# Altium footprint library IPC-SM-782 Section 14.1.1 PBGA 1.5mm.PcbLib: 50 footprints (part 5 of 7)
Each footprint in its own frame and in the unit in brackets; x right, y up, seen from the top. Pads: shape width x height; smd on the part's side, far side on the other; paste and mask are expansions set on the pad; w line width, h text height; cw(c..) or ccw(c..) is an arc to the next point about the centre after c.
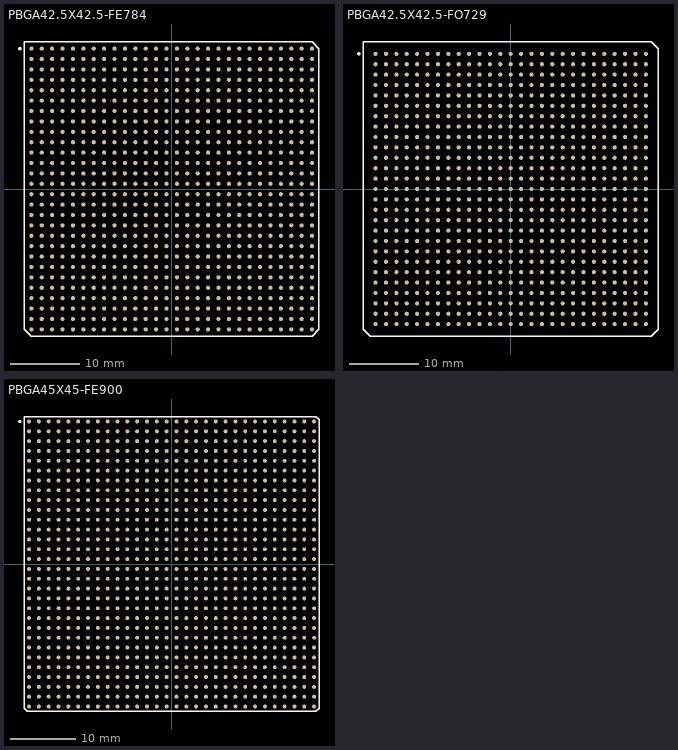
[diagram p4: the footprints below, top view; thin cyan lines are the x and y axes]

## PBGA42.5X42.5-FE784 [mm] "BGA; 784 Balls; Body 42.5 x 42.5 mm; Pitch 1.5 mm"
height 3.5
pads (784):
  round 0.6 smd: A1(-20.25,20.25) A2(-18.75,20.25) A3(-17.25,20.25) A4(-15.75,20.25) A5(-14.25,20.25) A6(-12.75,20.25) A7(-11.25,20.25) A8(-9.75,20.25) A9(-8.25,20.25) A10(-6.75,20.25) A11(-5.25,20.25) A12(-3.75,20.25) A13(-2.25,20.25) A14(-0.75,20.25) A15(0.75,20.25) A16(2.25,20.25) A17(3.75,20.25) A18(5.25,20.25) A19(6.75,20.25) A20(8.25,20.25) A21(9.75,20.25) A22(11.25,20.25) A23(12.75,20.25) A24(14.25,20.25) A25(15.75,20.25) A26(17.25,20.25) A27(18.75,20.25) A28(20.25,20.25) AA1(-20.25,-9.75) AA2(-18.75,-9.75) AA3(-17.25,-9.75) AA4(-15.75,-9.75) AA5(-14.25,-9.75) AA6(-12.75,-9.75) AA7(-11.25,-9.75) AA8(-9.75,-9.75) AA9(-8.25,-9.75) AA10(-6.75,-9.75) AA11(-5.25,-9.75) AA12(-3.75,-9.75) AA13(-2.25,-9.75) AA14(-0.75,-9.75) AA15(0.75,-9.75) AA16(2.25,-9.75) AA17(3.75,-9.75) AA18(5.25,-9.75) AA19(6.75,-9.75) AA20(8.25,-9.75) AA21(9.75,-9.75) AA22(11.25,-9.75) AA23(12.75,-9.75) AA24(14.25,-9.75) AA25(15.75,-9.75) AA26(17.25,-9.75) AA27(18.75,-9.75) AA28(20.25,-9.75) AB1(-20.25,-11.25) AB2(-18.75,-11.25) AB3(-17.25,-11.25) AB4(-15.75,-11.25) AB5(-14.25,-11.25) AB6(-12.75,-11.25) AB7(-11.25,-11.25) AB8(-9.75,-11.25) AB9(-8.25,-11.25) AB10(-6.75,-11.25) AB11(-5.25,-11.25) AB12(-3.75,-11.25) AB13(-2.25,-11.25) AB14(-0.75,-11.25) AB15(0.75,-11.25) AB16(2.25,-11.25) AB17(3.75,-11.25) AB18(5.25,-11.25) AB19(6.75,-11.25) AB20(8.25,-11.25) AB21(9.75,-11.25) AB22(11.25,-11.25) AB23(12.75,-11.25) AB24(14.25,-11.25) AB25(15.75,-11.25) AB26(17.25,-11.25) AB27(18.75,-11.25) AB28(20.25,-11.25) AC1(-20.25,-12.75) AC2(-18.75,-12.75) AC3(-17.25,-12.75) AC4(-15.75,-12.75) AC5(-14.25,-12.75) AC6(-12.75,-12.75) AC7(-11.25,-12.75) AC8(-9.75,-12.75) AC9(-8.25,-12.75) AC10(-6.75,-12.75) AC11(-5.25,-12.75) AC12(-3.75,-12.75) AC13(-2.25,-12.75) AC14(-0.75,-12.75) AC15(0.75,-12.75) AC16(2.25,-12.75) AC17(3.75,-12.75) AC18(5.25,-12.75) AC19(6.75,-12.75) AC20(8.25,-12.75) AC21(9.75,-12.75) AC22(11.25,-12.75) AC23(12.75,-12.75) AC24(14.25,-12.75) AC25(15.75,-12.75) AC26(17.25,-12.75) AC27(18.75,-12.75) AC28(20.25,-12.75) AD1(-20.25,-14.25) AD2(-18.75,-14.25) AD3(-17.25,-14.25) AD4(-15.75,-14.25) AD5(-14.25,-14.25) AD6(-12.75,-14.25) AD7(-11.25,-14.25) AD8(-9.75,-14.25) AD9(-8.25,-14.25) AD10(-6.75,-14.25) AD11(-5.25,-14.25) AD12(-3.75,-14.25) AD13(-2.25,-14.25) AD14(-0.75,-14.25) AD15(0.75,-14.25) AD16(2.25,-14.25) AD17(3.75,-14.25) AD18(5.25,-14.25) AD19(6.75,-14.25) AD20(8.25,-14.25) AD21(9.75,-14.25) AD22(11.25,-14.25) AD23(12.75,-14.25) AD24(14.25,-14.25) AD25(15.75,-14.25) AD26(17.25,-14.25) AD27(18.75,-14.25) AD28(20.25,-14.25) AE1(-20.25,-15.75) AE2(-18.75,-15.75) AE3(-17.25,-15.75) AE4(-15.75,-15.75) AE5(-14.25,-15.75) AE6(-12.75,-15.75) AE7(-11.25,-15.75) AE8(-9.75,-15.75) AE9(-8.25,-15.75) AE10(-6.75,-15.75) AE11(-5.25,-15.75) AE12(-3.75,-15.75) AE13(-2.25,-15.75) AE14(-0.75,-15.75) AE15(0.75,-15.75) AE16(2.25,-15.75) AE17(3.75,-15.75) AE18(5.25,-15.75) AE19(6.75,-15.75) AE20(8.25,-15.75) AE21(9.75,-15.75) AE22(11.25,-15.75) AE23(12.75,-15.75) AE24(14.25,-15.75) AE25(15.75,-15.75) AE26(17.25,-15.75) AE27(18.75,-15.75) AE28(20.25,-15.75) AF1(-20.25,-17.25) AF2(-18.75,-17.25) AF3(-17.25,-17.25) AF4(-15.75,-17.25) AF5(-14.25,-17.25) AF6(-12.75,-17.25) AF7(-11.25,-17.25) AF8(-9.75,-17.25) AF9(-8.25,-17.25) AF10(-6.75,-17.25) AF11(-5.25,-17.25) AF12(-3.75,-17.25) AF13(-2.25,-17.25) AF14(-0.75,-17.25) AF15(0.75,-17.25) AF16(2.25,-17.25) AF17(3.75,-17.25) AF18(5.25,-17.25) AF19(6.75,-17.25) AF20(8.25,-17.25) AF21(9.75,-17.25) AF22(11.25,-17.25) AF23(12.75,-17.25) AF24(14.25,-17.25) AF25(15.75,-17.25) AF26(17.25,-17.25) AF27(18.75,-17.25) AF28(20.25,-17.25) AG1(-20.25,-18.75) AG2(-18.75,-18.75) AG3(-17.25,-18.75) AG4(-15.75,-18.75) AG5(-14.25,-18.75) AG6(-12.75,-18.75) AG7(-11.25,-18.75) AG8(-9.75,-18.75) AG9(-8.25,-18.75) AG10(-6.75,-18.75) AG11(-5.25,-18.75) AG12(-3.75,-18.75) AG13(-2.25,-18.75) AG14(-0.75,-18.75) AG15(0.75,-18.75) AG16(2.25,-18.75) AG17(3.75,-18.75) AG18(5.25,-18.75) AG19(6.75,-18.75) AG20(8.25,-18.75) AG21(9.75,-18.75) AG22(11.25,-18.75) AG23(12.75,-18.75) AG24(14.25,-18.75) AG25(15.75,-18.75) AG26(17.25,-18.75) AG27(18.75,-18.75) AG28(20.25,-18.75) AH1(-20.25,-20.25) AH2(-18.75,-20.25) AH3(-17.25,-20.25) AH4(-15.75,-20.25) AH5(-14.25,-20.25) AH6(-12.75,-20.25) AH7(-11.25,-20.25) AH8(-9.75,-20.25) AH9(-8.25,-20.25) AH10(-6.75,-20.25) AH11(-5.25,-20.25) AH12(-3.75,-20.25) AH13(-2.25,-20.25) AH14(-0.75,-20.25) AH15(0.75,-20.25) AH16(2.25,-20.25) AH17(3.75,-20.25) AH18(5.25,-20.25) AH19(6.75,-20.25) AH20(8.25,-20.25) AH21(9.75,-20.25) AH22(11.25,-20.25) AH23(12.75,-20.25) AH24(14.25,-20.25) AH25(15.75,-20.25) AH26(17.25,-20.25) AH27(18.75,-20.25) AH28(20.25,-20.25) B1(-20.25,18.75) B2(-18.75,18.75) B3(-17.25,18.75) B4(-15.75,18.75) B5(-14.25,18.75) B6(-12.75,18.75) B7(-11.25,18.75) B8(-9.75,18.75) B9(-8.25,18.75) B10(-6.75,18.75) B11(-5.25,18.75) B12(-3.75,18.75) B13(-2.25,18.75) B14(-0.75,18.75) B15(0.75,18.75) B16(2.25,18.75) B17(3.75,18.75) B18(5.25,18.75) B19(6.75,18.75) B20(8.25,18.75) B21(9.75,18.75) B22(11.25,18.75) B23(12.75,18.75) B24(14.25,18.75) B25(15.75,18.75) B26(17.25,18.75) B27(18.75,18.75) B28(20.25,18.75) C1(-20.25,17.25) C2(-18.75,17.25) C3(-17.25,17.25) C4(-15.75,17.25) C5(-14.25,17.25) C6(-12.75,17.25) C7(-11.25,17.25) C8(-9.75,17.25) C9(-8.25,17.25) C10(-6.75,17.25) C11(-5.25,17.25) C12(-3.75,17.25) C13(-2.25,17.25) C14(-0.75,17.25) C15(0.75,17.25) C16(2.25,17.25) C17(3.75,17.25) C18(5.25,17.25) C19(6.75,17.25) C20(8.25,17.25) C21(9.75,17.25) C22(11.25,17.25) C23(12.75,17.25) C24(14.25,17.25) C25(15.75,17.25) C26(17.25,17.25) C27(18.75,17.25) C28(20.25,17.25) D1(-20.25,15.75) D2(-18.75,15.75) D3(-17.25,15.75) D4(-15.75,15.75) D5(-14.25,15.75) D6(-12.75,15.75) D7(-11.25,15.75) D8(-9.75,15.75) D9(-8.25,15.75) D10(-6.75,15.75) D11(-5.25,15.75) D12(-3.75,15.75) D13(-2.25,15.75) D14(-0.75,15.75) D15(0.75,15.75) D16(2.25,15.75) D17(3.75,15.75) D18(5.25,15.75) D19(6.75,15.75) D20(8.25,15.75) D21(9.75,15.75) D22(11.25,15.75) D23(12.75,15.75) D24(14.25,15.75) D25(15.75,15.75) D26(17.25,15.75) D27(18.75,15.75) D28(20.25,15.75) E1(-20.25,14.25) E2(-18.75,14.25) E3(-17.25,14.25) E4(-15.75,14.25) E5(-14.25,14.25) E6(-12.75,14.25) E7(-11.25,14.25) E8(-9.75,14.25) E9(-8.25,14.25) E10(-6.75,14.25) E11(-5.25,14.25) E12(-3.75,14.25) E13(-2.25,14.25) E14(-0.75,14.25) E15(0.75,14.25) E16(2.25,14.25) E17(3.75,14.25) E18(5.25,14.25) E19(6.75,14.25) E20(8.25,14.25) E21(9.75,14.25) E22(11.25,14.25) E23(12.75,14.25) E24(14.25,14.25) E25(15.75,14.25) E26(17.25,14.25) E27(18.75,14.25) E28(20.25,14.25) F1(-20.25,12.75) F2(-18.75,12.75) F3(-17.25,12.75) F4(-15.75,12.75) F5(-14.25,12.75) F6(-12.75,12.75) F7(-11.25,12.75) F8(-9.75,12.75) F9(-8.25,12.75) F10(-6.75,12.75) F11(-5.25,12.75) F12(-3.75,12.75) F13(-2.25,12.75) F14(-0.75,12.75) F15(0.75,12.75) F16(2.25,12.75) F17(3.75,12.75) F18(5.25,12.75) F19(6.75,12.75) F20(8.25,12.75) F21(9.75,12.75) F22(11.25,12.75) F23(12.75,12.75) F24(14.25,12.75) F25(15.75,12.75) F26(17.25,12.75) F27(18.75,12.75) F28(20.25,12.75) G1(-20.25,11.25) G2(-18.75,11.25) G3(-17.25,11.25) G4(-15.75,11.25) G5(-14.25,11.25) G6(-12.75,11.25) G7(-11.25,11.25) G8(-9.75,11.25) G9(-8.25,11.25) G10(-6.75,11.25) G11(-5.25,11.25) G12(-3.75,11.25) G13(-2.25,11.25) G14(-0.75,11.25) G15(0.75,11.25) G16(2.25,11.25) G17(3.75,11.25) G18(5.25,11.25) G19(6.75,11.25) G20(8.25,11.25) G21(9.75,11.25) G22(11.25,11.25) G23(12.75,11.25) G24(14.25,11.25) G25(15.75,11.25) G26(17.25,11.25) G27(18.75,11.25) G28(20.25,11.25) H1(-20.25,9.75) H2(-18.75,9.75) H3(-17.25,9.75) H4(-15.75,9.75) H5(-14.25,9.75) H6(-12.75,9.75) H7(-11.25,9.75) H8(-9.75,9.75) H9(-8.25,9.75) H10(-6.75,9.75) H11(-5.25,9.75) H12(-3.75,9.75) H13(-2.25,9.75) H14(-0.75,9.75) H15(0.75,9.75) H16(2.25,9.75) H17(3.75,9.75) H18(5.25,9.75) H19(6.75,9.75) H20(8.25,9.75) H21(9.75,9.75) H22(11.25,9.75) H23(12.75,9.75) H24(14.25,9.75) H25(15.75,9.75) H26(17.25,9.75) H27(18.75,9.75) H28(20.25,9.75) J1(-20.25,8.25) J2(-18.75,8.25) J3(-17.25,8.25) J4(-15.75,8.25) J5(-14.25,8.25) J6(-12.75,8.25) J7(-11.25,8.25) J8(-9.75,8.25) J9(-8.25,8.25) J10(-6.75,8.25) J11(-5.25,8.25) J12(-3.75,8.25) J13(-2.25,8.25) J14(-0.75,8.25) J15(0.75,8.25) J16(2.25,8.25) J17(3.75,8.25) J18(5.25,8.25) J19(6.75,8.25) J20(8.25,8.25) J21(9.75,8.25) J22(11.25,8.25) J23(12.75,8.25) J24(14.25,8.25) J25(15.75,8.25) J26(17.25,8.25) J27(18.75,8.25) J28(20.25,8.25) K1(-20.25,6.75) K2(-18.75,6.75) K3(-17.25,6.75) K4(-15.75,6.75) K5(-14.25,6.75) K6(-12.75,6.75) K7(-11.25,6.75) K8(-9.75,6.75) K9(-8.25,6.75) K10(-6.75,6.75) K11(-5.25,6.75) K12(-3.75,6.75) K13(-2.25,6.75) K14(-0.75,6.75) K15(0.75,6.75) K16(2.25,6.75) K17(3.75,6.75) K18(5.25,6.75) K19(6.75,6.75) K20(8.25,6.75) K21(9.75,6.75) K22(11.25,6.75) K23(12.75,6.75) K24(14.25,6.75) K25(15.75,6.75) K26(17.25,6.75) K27(18.75,6.75) K28(20.25,6.75) L1(-20.25,5.25) L2(-18.75,5.25) L3(-17.25,5.25) L4(-15.75,5.25) L5(-14.25,5.25) L6(-12.75,5.25) L7(-11.25,5.25) L8(-9.75,5.25) L9(-8.25,5.25) L10(-6.75,5.25) L11(-5.25,5.25) L12(-3.75,5.25) L13(-2.25,5.25) L14(-0.75,5.25) L15(0.75,5.25) L16(2.25,5.25) L17(3.75,5.25) L18(5.25,5.25) L19(6.75,5.25) L20(8.25,5.25) L21(9.75,5.25) L22(11.25,5.25) L23(12.75,5.25) L24(14.25,5.25) L25(15.75,5.25) L26(17.25,5.25) L27(18.75,5.25) L28(20.25,5.25) M1(-20.25,3.75) M2(-18.75,3.75) M3(-17.25,3.75) M4(-15.75,3.75) M5(-14.25,3.75) M6(-12.75,3.75) M7(-11.25,3.75) M8(-9.75,3.75) M9(-8.25,3.75) M10(-6.75,3.75) M11(-5.25,3.75) M12(-3.75,3.75) M13(-2.25,3.75) M14(-0.75,3.75) M15(0.75,3.75) M16(2.25,3.75) M17(3.75,3.75) M18(5.25,3.75) M19(6.75,3.75) M20(8.25,3.75) M21(9.75,3.75) M22(11.25,3.75) M23(12.75,3.75) M24(14.25,3.75) M25(15.75,3.75) M26(17.25,3.75) M27(18.75,3.75) M28(20.25,3.75) N1(-20.25,2.25) N2(-18.75,2.25) N3(-17.25,2.25) N4(-15.75,2.25) N5(-14.25,2.25) N6(-12.75,2.25) N7(-11.25,2.25) N8(-9.75,2.25) N9(-8.25,2.25) N10(-6.75,2.25) N11(-5.25,2.25) N12(-3.75,2.25) N13(-2.25,2.25) N14(-0.75,2.25) N15(0.75,2.25) N16(2.25,2.25) N17(3.75,2.25) N18(5.25,2.25) N19(6.75,2.25) N20(8.25,2.25) N21(9.75,2.25) N22(11.25,2.25) N23(12.75,2.25) N24(14.25,2.25) N25(15.75,2.25) N26(17.25,2.25) N27(18.75,2.25) N28(20.25,2.25) P1(-20.25,0.75) P2(-18.75,0.75) P3(-17.25,0.75) P4(-15.75,0.75) P5(-14.25,0.75) P6(-12.75,0.75) P7(-11.25,0.75) P8(-9.75,0.75) P9(-8.25,0.75) P10(-6.75,0.75) P11(-5.25,0.75) P12(-3.75,0.75) P13(-2.25,0.75) P14(-0.75,0.75) P15(0.75,0.75) P16(2.25,0.75) P17(3.75,0.75) P18(5.25,0.75) P19(6.75,0.75) P20(8.25,0.75) P21(9.75,0.75) P22(11.25,0.75) P23(12.75,0.75) P24(14.25,0.75) P25(15.75,0.75) P26(17.25,0.75) P27(18.75,0.75) P28(20.25,0.75) R1(-20.25,-0.75) R2(-18.75,-0.75) R3(-17.25,-0.75) R4(-15.75,-0.75) R5(-14.25,-0.75) R6(-12.75,-0.75) R7(-11.25,-0.75) R8(-9.75,-0.75) R9(-8.25,-0.75) R10(-6.75,-0.75) R11(-5.25,-0.75) R12(-3.75,-0.75) R13(-2.25,-0.75) R14(-0.75,-0.75) R15(0.75,-0.75) R16(2.25,-0.75) R17(3.75,-0.75) R18(5.25,-0.75) R19(6.75,-0.75) R20(8.25,-0.75) R21(9.75,-0.75) R22(11.25,-0.75) R23(12.75,-0.75) R24(14.25,-0.75) R25(15.75,-0.75) R26(17.25,-0.75) R27(18.75,-0.75) R28(20.25,-0.75) T1(-20.25,-2.25) T2(-18.75,-2.25) T3(-17.25,-2.25) T4(-15.75,-2.25) T5(-14.25,-2.25) T6(-12.75,-2.25) T7(-11.25,-2.25) T8(-9.75,-2.25) T9(-8.25,-2.25) T10(-6.75,-2.25) T11(-5.25,-2.25) T12(-3.75,-2.25) T13(-2.25,-2.25) T14(-0.75,-2.25) T15(0.75,-2.25) T16(2.25,-2.25) T17(3.75,-2.25) T18(5.25,-2.25) T19(6.75,-2.25) T20(8.25,-2.25) T21(9.75,-2.25) T22(11.25,-2.25) T23(12.75,-2.25) T24(14.25,-2.25) T25(15.75,-2.25) T26(17.25,-2.25) T27(18.75,-2.25) T28(20.25,-2.25) U1(-20.25,-3.75) U2(-18.75,-3.75) U3(-17.25,-3.75) U4(-15.75,-3.75) U5(-14.25,-3.75) U6(-12.75,-3.75) U7(-11.25,-3.75) U8(-9.75,-3.75) U9(-8.25,-3.75) U10(-6.75,-3.75) U11(-5.25,-3.75) U12(-3.75,-3.75) U13(-2.25,-3.75) U14(-0.75,-3.75) U15(0.75,-3.75) U16(2.25,-3.75) U17(3.75,-3.75) U18(5.25,-3.75) U19(6.75,-3.75) U20(8.25,-3.75) U21(9.75,-3.75) U22(11.25,-3.75) U23(12.75,-3.75) U24(14.25,-3.75) U25(15.75,-3.75) U26(17.25,-3.75) U27(18.75,-3.75) U28(20.25,-3.75) V1(-20.25,-5.25) V2(-18.75,-5.25) V3(-17.25,-5.25) V4(-15.75,-5.25) V5(-14.25,-5.25) V6(-12.75,-5.25) V7(-11.25,-5.25) V8(-9.75,-5.25) V9(-8.25,-5.25) V10(-6.75,-5.25) V11(-5.25,-5.25) V12(-3.75,-5.25) V13(-2.25,-5.25) V14(-0.75,-5.25) V15(0.75,-5.25) V16(2.25,-5.25) V17(3.75,-5.25) V18(5.25,-5.25) V19(6.75,-5.25) V20(8.25,-5.25) V21(9.75,-5.25) V22(11.25,-5.25) V23(12.75,-5.25) V24(14.25,-5.25) V25(15.75,-5.25) V26(17.25,-5.25) V27(18.75,-5.25) V28(20.25,-5.25) W1(-20.25,-6.75) W2(-18.75,-6.75) W3(-17.25,-6.75) W4(-15.75,-6.75) W5(-14.25,-6.75) W6(-12.75,-6.75) W7(-11.25,-6.75) W8(-9.75,-6.75) W9(-8.25,-6.75) W10(-6.75,-6.75) W11(-5.25,-6.75) W12(-3.75,-6.75) W13(-2.25,-6.75) W14(-0.75,-6.75) W15(0.75,-6.75) W16(2.25,-6.75) W17(3.75,-6.75) W18(5.25,-6.75) W19(6.75,-6.75) W20(8.25,-6.75) W21(9.75,-6.75) W22(11.25,-6.75) W23(12.75,-6.75) W24(14.25,-6.75) W25(15.75,-6.75) W26(17.25,-6.75) W27(18.75,-6.75) W28(20.25,-6.75) Y1(-20.25,-8.25) Y2(-18.75,-8.25) Y3(-17.25,-8.25) Y4(-15.75,-8.25) Y5(-14.25,-8.25) Y6(-12.75,-8.25) Y7(-11.25,-8.25) Y8(-9.75,-8.25) Y9(-8.25,-8.25) Y10(-6.75,-8.25) Y11(-5.25,-8.25) Y12(-3.75,-8.25) Y13(-2.25,-8.25) Y14(-0.75,-8.25) Y15(0.75,-8.25) Y16(2.25,-8.25) Y17(3.75,-8.25) Y18(5.25,-8.25) Y19(6.75,-8.25) Y20(8.25,-8.25) Y21(9.75,-8.25) Y22(11.25,-8.25) Y23(12.75,-8.25) Y24(14.25,-8.25) Y25(15.75,-8.25) Y26(17.25,-8.25) Y27(18.75,-8.25) Y28(20.25,-8.25)
Top Overlay:
  circle w0.25: c-21.905,20.25 r0.125
  lines w0.2: -21.25,-20.25 -21.25,21.25 20.25,21.25 21.25,20.25 21.25,-20.25 20.25,-21.25 -20.25,-21.25 -21.25,-20.25

## PBGA42.5X42.5-FO729 [mm] "BGA; 729 Balls; Body 42.5 x 42.5 mm; Pitch 1.5 mm"
height 3.5
pads (729):
  round 0.6 smd: A1(-19.5,19.5) A2(-18,19.5) A3(-16.5,19.5) A4(-15,19.5) A5(-13.5,19.5) A6(-12,19.5) A7(-10.5,19.5) A8(-9,19.5) A9(-7.5,19.5) A10(-6,19.5) A11(-4.5,19.5) A12(-3,19.5) A13(-1.5,19.5) A14(0,19.5) A15(1.5,19.5) A16(3,19.5) A17(4.5,19.5) A18(6,19.5) A19(7.5,19.5) A20(9,19.5) A21(10.5,19.5) A22(12,19.5) A23(13.5,19.5) A24(15,19.5) A25(16.5,19.5) A26(18,19.5) A27(19.5,19.5) AA1(-19.5,-10.5) AA2(-18,-10.5) AA3(-16.5,-10.5) AA4(-15,-10.5) AA5(-13.5,-10.5) AA6(-12,-10.5) AA7(-10.5,-10.5) AA8(-9,-10.5) AA9(-7.5,-10.5) AA10(-6,-10.5) AA11(-4.5,-10.5) AA12(-3,-10.5) AA13(-1.5,-10.5) AA14(0,-10.5) AA15(1.5,-10.5) AA16(3,-10.5) AA17(4.5,-10.5) AA18(6,-10.5) AA19(7.5,-10.5) AA20(9,-10.5) AA21(10.5,-10.5) AA22(12,-10.5) AA23(13.5,-10.5) AA24(15,-10.5) AA25(16.5,-10.5) AA26(18,-10.5) AA27(19.5,-10.5) AB1(-19.5,-12) AB2(-18,-12) AB3(-16.5,-12) AB4(-15,-12) AB5(-13.5,-12) AB6(-12,-12) AB7(-10.5,-12) AB8(-9,-12) AB9(-7.5,-12) AB10(-6,-12) AB11(-4.5,-12) AB12(-3,-12) AB13(-1.5,-12) AB14(0,-12) AB15(1.5,-12) AB16(3,-12) AB17(4.5,-12) AB18(6,-12) AB19(7.5,-12) AB20(9,-12) AB21(10.5,-12) AB22(12,-12) AB23(13.5,-12) AB24(15,-12) AB25(16.5,-12) AB26(18,-12) AB27(19.5,-12) AC1(-19.5,-13.5) AC2(-18,-13.5) AC3(-16.5,-13.5) AC4(-15,-13.5) AC5(-13.5,-13.5) AC6(-12,-13.5) AC7(-10.5,-13.5) AC8(-9,-13.5) AC9(-7.5,-13.5) AC10(-6,-13.5) AC11(-4.5,-13.5) AC12(-3,-13.5) AC13(-1.5,-13.5) AC14(0,-13.5) AC15(1.5,-13.5) AC16(3,-13.5) AC17(4.5,-13.5) AC18(6,-13.5) AC19(7.5,-13.5) AC20(9,-13.5) AC21(10.5,-13.5) AC22(12,-13.5) AC23(13.5,-13.5) AC24(15,-13.5) AC25(16.5,-13.5) AC26(18,-13.5) AC27(19.5,-13.5) AD1(-19.5,-15) AD2(-18,-15) AD3(-16.5,-15) AD4(-15,-15) AD5(-13.5,-15) AD6(-12,-15) AD7(-10.5,-15) AD8(-9,-15) AD9(-7.5,-15) AD10(-6,-15) AD11(-4.5,-15) AD12(-3,-15) AD13(-1.5,-15) AD14(0,-15) AD15(1.5,-15) AD16(3,-15) AD17(4.5,-15) AD18(6,-15) AD19(7.5,-15) AD20(9,-15) AD21(10.5,-15) AD22(12,-15) AD23(13.5,-15) AD24(15,-15) AD25(16.5,-15) AD26(18,-15) AD27(19.5,-15) AE1(-19.5,-16.5) AE2(-18,-16.5) AE3(-16.5,-16.5) AE4(-15,-16.5) AE5(-13.5,-16.5) AE6(-12,-16.5) AE7(-10.5,-16.5) AE8(-9,-16.5) AE9(-7.5,-16.5) AE10(-6,-16.5) AE11(-4.5,-16.5) AE12(-3,-16.5) AE13(-1.5,-16.5) AE14(0,-16.5) AE15(1.5,-16.5) AE16(3,-16.5) AE17(4.5,-16.5) AE18(6,-16.5) AE19(7.5,-16.5) AE20(9,-16.5) AE21(10.5,-16.5) AE22(12,-16.5) AE23(13.5,-16.5) AE24(15,-16.5) AE25(16.5,-16.5) AE26(18,-16.5) AE27(19.5,-16.5) AF1(-19.5,-18) AF2(-18,-18) AF3(-16.5,-18) AF4(-15,-18) AF5(-13.5,-18) AF6(-12,-18) AF7(-10.5,-18) AF8(-9,-18) AF9(-7.5,-18) AF10(-6,-18) AF11(-4.5,-18) AF12(-3,-18) AF13(-1.5,-18) AF14(0,-18) AF15(1.5,-18) AF16(3,-18) AF17(4.5,-18) AF18(6,-18) AF19(7.5,-18) AF20(9,-18) AF21(10.5,-18) AF22(12,-18) AF23(13.5,-18) AF24(15,-18) AF25(16.5,-18) AF26(18,-18) AF27(19.5,-18) AG1(-19.5,-19.5) AG2(-18,-19.5) AG3(-16.5,-19.5) AG4(-15,-19.5) AG5(-13.5,-19.5) AG6(-12,-19.5) AG7(-10.5,-19.5) AG8(-9,-19.5) AG9(-7.5,-19.5) AG10(-6,-19.5) AG11(-4.5,-19.5) AG12(-3,-19.5) AG13(-1.5,-19.5) AG14(0,-19.5) AG15(1.5,-19.5) AG16(3,-19.5) AG17(4.5,-19.5) AG18(6,-19.5) AG19(7.5,-19.5) AG20(9,-19.5) AG21(10.5,-19.5) AG22(12,-19.5) AG23(13.5,-19.5) AG24(15,-19.5) AG25(16.5,-19.5) AG26(18,-19.5) AG27(19.5,-19.5) B1(-19.5,18) B2(-18,18) B3(-16.5,18) B4(-15,18) B5(-13.5,18) B6(-12,18) B7(-10.5,18) B8(-9,18) B9(-7.5,18) B10(-6,18) B11(-4.5,18) B12(-3,18) B13(-1.5,18) B14(0,18) B15(1.5,18) B16(3,18) B17(4.5,18) B18(6,18) B19(7.5,18) B20(9,18) B21(10.5,18) B22(12,18) B23(13.5,18) B24(15,18) B25(16.5,18) B26(18,18) B27(19.5,18) C1(-19.5,16.5) C2(-18,16.5) C3(-16.5,16.5) C4(-15,16.5) C5(-13.5,16.5) C6(-12,16.5) C7(-10.5,16.5) C8(-9,16.5) C9(-7.5,16.5) C10(-6,16.5) C11(-4.5,16.5) C12(-3,16.5) C13(-1.5,16.5) C14(0,16.5) C15(1.5,16.5) C16(3,16.5) C17(4.5,16.5) C18(6,16.5) C19(7.5,16.5) C20(9,16.5) C21(10.5,16.5) C22(12,16.5) C23(13.5,16.5) C24(15,16.5) C25(16.5,16.5) C26(18,16.5) C27(19.5,16.5) D1(-19.5,15) D2(-18,15) D3(-16.5,15) D4(-15,15) D5(-13.5,15) D6(-12,15) D7(-10.5,15) D8(-9,15) D9(-7.5,15) D10(-6,15) D11(-4.5,15) D12(-3,15) D13(-1.5,15) D14(0,15) D15(1.5,15) D16(3,15) D17(4.5,15) D18(6,15) D19(7.5,15) D20(9,15) D21(10.5,15) D22(12,15) D23(13.5,15) D24(15,15) D25(16.5,15) D26(18,15) D27(19.5,15) E1(-19.5,13.5) E2(-18,13.5) E3(-16.5,13.5) E4(-15,13.5) E5(-13.5,13.5) E6(-12,13.5) E7(-10.5,13.5) E8(-9,13.5) E9(-7.5,13.5) E10(-6,13.5) E11(-4.5,13.5) E12(-3,13.5) E13(-1.5,13.5) E14(0,13.5) E15(1.5,13.5) E16(3,13.5) E17(4.5,13.5) E18(6,13.5) E19(7.5,13.5) E20(9,13.5) E21(10.5,13.5) E22(12,13.5) E23(13.5,13.5) E24(15,13.5) E25(16.5,13.5) E26(18,13.5) E27(19.5,13.5) F1(-19.5,12) F2(-18,12) F3(-16.5,12) F4(-15,12) F5(-13.5,12) F6(-12,12) F7(-10.5,12) F8(-9,12) F9(-7.5,12) F10(-6,12) F11(-4.5,12) F12(-3,12) F13(-1.5,12) F14(0,12) F15(1.5,12) F16(3,12) F17(4.5,12) F18(6,12) F19(7.5,12) F20(9,12) F21(10.5,12) F22(12,12) F23(13.5,12) F24(15,12) F25(16.5,12) F26(18,12) F27(19.5,12) G1(-19.5,10.5) G2(-18,10.5) G3(-16.5,10.5) G4(-15,10.5) G5(-13.5,10.5) G6(-12,10.5) G7(-10.5,10.5) G8(-9,10.5) G9(-7.5,10.5) G10(-6,10.5) G11(-4.5,10.5) G12(-3,10.5) G13(-1.5,10.5) G14(0,10.5) G15(1.5,10.5) G16(3,10.5) G17(4.5,10.5) G18(6,10.5) G19(7.5,10.5) G20(9,10.5) G21(10.5,10.5) G22(12,10.5) G23(13.5,10.5) G24(15,10.5) G25(16.5,10.5) G26(18,10.5) G27(19.5,10.5) H1(-19.5,9) H2(-18,9) H3(-16.5,9) H4(-15,9) H5(-13.5,9) H6(-12,9) H7(-10.5,9) H8(-9,9) H9(-7.5,9) H10(-6,9) H11(-4.5,9) H12(-3,9) H13(-1.5,9) H14(0,9) H15(1.5,9) H16(3,9) H17(4.5,9) H18(6,9) H19(7.5,9) H20(9,9) H21(10.5,9) H22(12,9) H23(13.5,9) H24(15,9) H25(16.5,9) H26(18,9) H27(19.5,9) J1(-19.5,7.5) J2(-18,7.5) J3(-16.5,7.5) J4(-15,7.5) J5(-13.5,7.5) J6(-12,7.5) J7(-10.5,7.5) J8(-9,7.5) J9(-7.5,7.5) J10(-6,7.5) J11(-4.5,7.5) J12(-3,7.5) J13(-1.5,7.5) J14(0,7.5) J15(1.5,7.5) J16(3,7.5) J17(4.5,7.5) J18(6,7.5) J19(7.5,7.5) J20(9,7.5) J21(10.5,7.5) J22(12,7.5) J23(13.5,7.5) J24(15,7.5) J25(16.5,7.5) J26(18,7.5) J27(19.5,7.5) K1(-19.5,6) K2(-18,6) K3(-16.5,6) K4(-15,6) K5(-13.5,6) K6(-12,6) K7(-10.5,6) K8(-9,6) K9(-7.5,6) K10(-6,6) K11(-4.5,6) K12(-3,6) K13(-1.5,6) K14(0,6) K15(1.5,6) K16(3,6) K17(4.5,6) K18(6,6) K19(7.5,6) K20(9,6) K21(10.5,6) K22(12,6) K23(13.5,6) K24(15,6) K25(16.5,6) K26(18,6) K27(19.5,6) L1(-19.5,4.5) L2(-18,4.5) L3(-16.5,4.5) L4(-15,4.5) L5(-13.5,4.5) L6(-12,4.5) L7(-10.5,4.5) L8(-9,4.5) L9(-7.5,4.5) L10(-6,4.5) L11(-4.5,4.5) L12(-3,4.5) L13(-1.5,4.5) L14(0,4.5) L15(1.5,4.5) L16(3,4.5) L17(4.5,4.5) L18(6,4.5) L19(7.5,4.5) L20(9,4.5) L21(10.5,4.5) L22(12,4.5) L23(13.5,4.5) L24(15,4.5) L25(16.5,4.5) L26(18,4.5) L27(19.5,4.5) M1(-19.5,3) M2(-18,3) M3(-16.5,3) M4(-15,3) M5(-13.5,3) M6(-12,3) M7(-10.5,3) M8(-9,3) M9(-7.5,3) M10(-6,3) M11(-4.5,3) M12(-3,3) M13(-1.5,3) M14(0,3) M15(1.5,3) M16(3,3) M17(4.5,3) M18(6,3) M19(7.5,3) M20(9,3) M21(10.5,3) M22(12,3) M23(13.5,3) M24(15,3) M25(16.5,3) M26(18,3) M27(19.5,3) N1(-19.5,1.5) N2(-18,1.5) N3(-16.5,1.5) N4(-15,1.5) N5(-13.5,1.5) N6(-12,1.5) N7(-10.5,1.5) N8(-9,1.5) N9(-7.5,1.5) N10(-6,1.5) N11(-4.5,1.5) N12(-3,1.5) N13(-1.5,1.5) N14(0,1.5) N15(1.5,1.5) N16(3,1.5) N17(4.5,1.5) N18(6,1.5) N19(7.5,1.5) N20(9,1.5) N21(10.5,1.5) N22(12,1.5) N23(13.5,1.5) N24(15,1.5) N25(16.5,1.5) N26(18,1.5) N27(19.5,1.5) P1(-19.5,0) P2(-18,0) P3(-16.5,0) P4(-15,0) P5(-13.5,0) P6(-12,0) P7(-10.5,0) P8(-9,0) P9(-7.5,0) P10(-6,0) P11(-4.5,0) P12(-3,0) P13(-1.5,0) P14(0,0) P15(1.5,0) P16(3,0) P17(4.5,0) P18(6,0) P19(7.5,0) P20(9,0) P21(10.5,0) P22(12,0) P23(13.5,0) P24(15,0) P25(16.5,0) P26(18,0) P27(19.5,0) R1(-19.5,-1.5) R2(-18,-1.5) R3(-16.5,-1.5) R4(-15,-1.5) R5(-13.5,-1.5) R6(-12,-1.5) R7(-10.5,-1.5) R8(-9,-1.5) R9(-7.5,-1.5) R10(-6,-1.5) R11(-4.5,-1.5) R12(-3,-1.5) R13(-1.5,-1.5) R14(0,-1.5) R15(1.5,-1.5) R16(3,-1.5) R17(4.5,-1.5) R18(6,-1.5) R19(7.5,-1.5) R20(9,-1.5) R21(10.5,-1.5) R22(12,-1.5) R23(13.5,-1.5) R24(15,-1.5) R25(16.5,-1.5) R26(18,-1.5) R27(19.5,-1.5) T1(-19.5,-3) T2(-18,-3) T3(-16.5,-3) T4(-15,-3) T5(-13.5,-3) T6(-12,-3) T7(-10.5,-3) T8(-9,-3) T9(-7.5,-3) T10(-6,-3) T11(-4.5,-3) T12(-3,-3) T13(-1.5,-3) T14(0,-3) T15(1.5,-3) T16(3,-3) T17(4.5,-3) T18(6,-3) T19(7.5,-3) T20(9,-3) T21(10.5,-3) T22(12,-3) T23(13.5,-3) T24(15,-3) T25(16.5,-3) T26(18,-3) T27(19.5,-3) U1(-19.5,-4.5) U2(-18,-4.5) U3(-16.5,-4.5) U4(-15,-4.5) U5(-13.5,-4.5) U6(-12,-4.5) U7(-10.5,-4.5) U8(-9,-4.5) U9(-7.5,-4.5) U10(-6,-4.5) U11(-4.5,-4.5) U12(-3,-4.5) U13(-1.5,-4.5) U14(0,-4.5) U15(1.5,-4.5) U16(3,-4.5) U17(4.5,-4.5) U18(6,-4.5) U19(7.5,-4.5) U20(9,-4.5) U21(10.5,-4.5) U22(12,-4.5) U23(13.5,-4.5) U24(15,-4.5) U25(16.5,-4.5) U26(18,-4.5) U27(19.5,-4.5) V1(-19.5,-6) V2(-18,-6) V3(-16.5,-6) V4(-15,-6) V5(-13.5,-6) V6(-12,-6) V7(-10.5,-6) V8(-9,-6) V9(-7.5,-6) V10(-6,-6) V11(-4.5,-6) V12(-3,-6) V13(-1.5,-6) V14(0,-6) V15(1.5,-6) V16(3,-6) V17(4.5,-6) V18(6,-6) V19(7.5,-6) V20(9,-6) V21(10.5,-6) V22(12,-6) V23(13.5,-6) V24(15,-6) V25(16.5,-6) V26(18,-6) V27(19.5,-6) W1(-19.5,-7.5) W2(-18,-7.5) W3(-16.5,-7.5) W4(-15,-7.5) W5(-13.5,-7.5) W6(-12,-7.5) W7(-10.5,-7.5) W8(-9,-7.5) W9(-7.5,-7.5) W10(-6,-7.5) W11(-4.5,-7.5) W12(-3,-7.5) W13(-1.5,-7.5) W14(0,-7.5) W15(1.5,-7.5) W16(3,-7.5) W17(4.5,-7.5) W18(6,-7.5) W19(7.5,-7.5) W20(9,-7.5) W21(10.5,-7.5) W22(12,-7.5) W23(13.5,-7.5) W24(15,-7.5) W25(16.5,-7.5) W26(18,-7.5) W27(19.5,-7.5) Y1(-19.5,-9) Y2(-18,-9) Y3(-16.5,-9) Y4(-15,-9) Y5(-13.5,-9) Y6(-12,-9) Y7(-10.5,-9) Y8(-9,-9) Y9(-7.5,-9) Y10(-6,-9) Y11(-4.5,-9) Y12(-3,-9) Y13(-1.5,-9) Y14(0,-9) Y15(1.5,-9) Y16(3,-9) Y17(4.5,-9) Y18(6,-9) Y19(7.5,-9) Y20(9,-9) Y21(10.5,-9) Y22(12,-9) Y23(13.5,-9) Y24(15,-9) Y25(16.5,-9) Y26(18,-9) Y27(19.5,-9)
Top Overlay:
  circle w0.25: c-21.905,19.5 r0.125
  lines w0.2: -21.25,-20.25 -20.25,-21.25 20.25,-21.25 21.25,-20.25 21.25,20.25 20.25,21.25 -21.25,21.25 -21.25,-20.25

## PBGA45X45-FE900 [mm] "BGA; 900 Balls; Body 45 x 45 mm; Pitch 1.5 mm"
height 3.5
pads (900):
  round 0.6 smd: A1(-21.75,21.75) A2(-20.25,21.75) A3(-18.75,21.75) A4(-17.25,21.75) A5(-15.75,21.75) A6(-14.25,21.75) A7(-12.75,21.75) A8(-11.25,21.75) A9(-9.75,21.75) A10(-8.25,21.75) A11(-6.75,21.75) A12(-5.25,21.75) A13(-3.75,21.75) A14(-2.25,21.75) A15(-0.75,21.75) A16(0.75,21.75) A17(2.25,21.75) A18(3.75,21.75) A19(5.25,21.75) A20(6.75,21.75) A21(8.25,21.75) A22(9.75,21.75) A23(11.25,21.75) A24(12.75,21.75) A25(14.25,21.75) A26(15.75,21.75) A27(17.25,21.75) A28(18.75,21.75) A29(20.25,21.75) A30(21.75,21.75) AA1(-21.75,-8.25) AA2(-20.25,-8.25) AA3(-18.75,-8.25) AA4(-17.25,-8.25) AA5(-15.75,-8.25) AA6(-14.25,-8.25) AA7(-12.75,-8.25) AA8(-11.25,-8.25) AA9(-9.75,-8.25) AA10(-8.25,-8.25) AA11(-6.75,-8.25) AA12(-5.25,-8.25) AA13(-3.75,-8.25) AA14(-2.25,-8.25) AA15(-0.75,-8.25) AA16(0.75,-8.25) AA17(2.25,-8.25) AA18(3.75,-8.25) AA19(5.25,-8.25) AA20(6.75,-8.25) AA21(8.25,-8.25) AA22(9.75,-8.25) AA23(11.25,-8.25) AA24(12.75,-8.25) AA25(14.25,-8.25) AA26(15.75,-8.25) AA27(17.25,-8.25) AA28(18.75,-8.25) AA29(20.25,-8.25) AA30(21.75,-8.25) AB1(-21.75,-9.75) AB2(-20.25,-9.75) AB3(-18.75,-9.75) AB4(-17.25,-9.75) AB5(-15.75,-9.75) AB6(-14.25,-9.75) AB7(-12.75,-9.75) AB8(-11.25,-9.75) AB9(-9.75,-9.75) AB10(-8.25,-9.75) AB11(-6.75,-9.75) AB12(-5.25,-9.75) AB13(-3.75,-9.75) AB14(-2.25,-9.75) AB15(-0.75,-9.75) AB16(0.75,-9.75) AB17(2.25,-9.75) AB18(3.75,-9.75) AB19(5.25,-9.75) AB20(6.75,-9.75) AB21(8.25,-9.75) AB22(9.75,-9.75) AB23(11.25,-9.75) AB24(12.75,-9.75) AB25(14.25,-9.75) AB26(15.75,-9.75) AB27(17.25,-9.75) AB28(18.75,-9.75) AB29(20.25,-9.75) AB30(21.75,-9.75) AC1(-21.75,-11.25) AC2(-20.25,-11.25) AC3(-18.75,-11.25) AC4(-17.25,-11.25) AC5(-15.75,-11.25) AC6(-14.25,-11.25) AC7(-12.75,-11.25) AC8(-11.25,-11.25) AC9(-9.75,-11.25) AC10(-8.25,-11.25) AC11(-6.75,-11.25) AC12(-5.25,-11.25) AC13(-3.75,-11.25) AC14(-2.25,-11.25) AC15(-0.75,-11.25) AC16(0.75,-11.25) AC17(2.25,-11.25) AC18(3.75,-11.25) AC19(5.25,-11.25) AC20(6.75,-11.25) AC21(8.25,-11.25) AC22(9.75,-11.25) AC23(11.25,-11.25) AC24(12.75,-11.25) AC25(14.25,-11.25) AC26(15.75,-11.25) AC27(17.25,-11.25) AC28(18.75,-11.25) AC29(20.25,-11.25) AC30(21.75,-11.25) AD1(-21.75,-12.75) AD2(-20.25,-12.75) AD3(-18.75,-12.75) AD4(-17.25,-12.75) AD5(-15.75,-12.75) AD6(-14.25,-12.75) AD7(-12.75,-12.75) AD8(-11.25,-12.75) AD9(-9.75,-12.75) AD10(-8.25,-12.75) AD11(-6.75,-12.75) AD12(-5.25,-12.75) AD13(-3.75,-12.75) AD14(-2.25,-12.75) AD15(-0.75,-12.75) AD16(0.75,-12.75) AD17(2.25,-12.75) AD18(3.75,-12.75) AD19(5.25,-12.75) AD20(6.75,-12.75) AD21(8.25,-12.75) AD22(9.75,-12.75) AD23(11.25,-12.75) AD24(12.75,-12.75) AD25(14.25,-12.75) AD26(15.75,-12.75) AD27(17.25,-12.75) AD28(18.75,-12.75) AD29(20.25,-12.75) AD30(21.75,-12.75) AE1(-21.75,-14.25) AE2(-20.25,-14.25) AE3(-18.75,-14.25) AE4(-17.25,-14.25) AE5(-15.75,-14.25) AE6(-14.25,-14.25) AE7(-12.75,-14.25) AE8(-11.25,-14.25) AE9(-9.75,-14.25) AE10(-8.25,-14.25) AE11(-6.75,-14.25) AE12(-5.25,-14.25) AE13(-3.75,-14.25) AE14(-2.25,-14.25) AE15(-0.75,-14.25) AE16(0.75,-14.25) AE17(2.25,-14.25) AE18(3.75,-14.25) AE19(5.25,-14.25) AE20(6.75,-14.25) AE21(8.25,-14.25) AE22(9.75,-14.25) AE23(11.25,-14.25) AE24(12.75,-14.25) AE25(14.25,-14.25) AE26(15.75,-14.25) AE27(17.25,-14.25) AE28(18.75,-14.25) AE29(20.25,-14.25) AE30(21.75,-14.25) AF1(-21.75,-15.75) AF2(-20.25,-15.75) AF3(-18.75,-15.75) AF4(-17.25,-15.75) AF5(-15.75,-15.75) AF6(-14.25,-15.75) AF7(-12.75,-15.75) AF8(-11.25,-15.75) AF9(-9.75,-15.75) AF10(-8.25,-15.75) AF11(-6.75,-15.75) AF12(-5.25,-15.75) AF13(-3.75,-15.75) AF14(-2.25,-15.75) AF15(-0.75,-15.75) AF16(0.75,-15.75) AF17(2.25,-15.75) AF18(3.75,-15.75) AF19(5.25,-15.75) AF20(6.75,-15.75) AF21(8.25,-15.75) AF22(9.75,-15.75) AF23(11.25,-15.75) AF24(12.75,-15.75) AF25(14.25,-15.75) AF26(15.75,-15.75) AF27(17.25,-15.75) AF28(18.75,-15.75) AF29(20.25,-15.75) AF30(21.75,-15.75) AG1(-21.75,-17.25) AG2(-20.25,-17.25) AG3(-18.75,-17.25) AG4(-17.25,-17.25) AG5(-15.75,-17.25) AG6(-14.25,-17.25) AG7(-12.75,-17.25) AG8(-11.25,-17.25) AG9(-9.75,-17.25) AG10(-8.25,-17.25) AG11(-6.75,-17.25) AG12(-5.25,-17.25) AG13(-3.75,-17.25) AG14(-2.25,-17.25) AG15(-0.75,-17.25) AG16(0.75,-17.25) AG17(2.25,-17.25) AG18(3.75,-17.25) AG19(5.25,-17.25) AG20(6.75,-17.25) AG21(8.25,-17.25) AG22(9.75,-17.25) AG23(11.25,-17.25) AG24(12.75,-17.25) AG25(14.25,-17.25) AG26(15.75,-17.25) AG27(17.25,-17.25) AG28(18.75,-17.25) AG29(20.25,-17.25) AG30(21.75,-17.25) AH1(-21.75,-18.75) AH2(-20.25,-18.75) AH3(-18.75,-18.75) AH4(-17.25,-18.75) AH5(-15.75,-18.75) AH6(-14.25,-18.75) AH7(-12.75,-18.75) AH8(-11.25,-18.75) AH9(-9.75,-18.75) AH10(-8.25,-18.75) AH11(-6.75,-18.75) AH12(-5.25,-18.75) AH13(-3.75,-18.75) AH14(-2.25,-18.75) AH15(-0.75,-18.75) AH16(0.75,-18.75) AH17(2.25,-18.75) AH18(3.75,-18.75) AH19(5.25,-18.75) AH20(6.75,-18.75) AH21(8.25,-18.75) AH22(9.75,-18.75) AH23(11.25,-18.75) AH24(12.75,-18.75) AH25(14.25,-18.75) AH26(15.75,-18.75) AH27(17.25,-18.75) AH28(18.75,-18.75) AH29(20.25,-18.75) AH30(21.75,-18.75) AJ1(-21.75,-20.25) AJ2(-20.25,-20.25) AJ3(-18.75,-20.25) AJ4(-17.25,-20.25) AJ5(-15.75,-20.25) AJ6(-14.25,-20.25) AJ7(-12.75,-20.25) AJ8(-11.25,-20.25) AJ9(-9.75,-20.25) AJ10(-8.25,-20.25) AJ11(-6.75,-20.25) AJ12(-5.25,-20.25) AJ13(-3.75,-20.25) AJ14(-2.25,-20.25) AJ15(-0.75,-20.25) AJ16(0.75,-20.25) AJ17(2.25,-20.25) AJ18(3.75,-20.25) AJ19(5.25,-20.25) AJ20(6.75,-20.25) AJ21(8.25,-20.25) AJ22(9.75,-20.25) AJ23(11.25,-20.25) AJ24(12.75,-20.25) AJ25(14.25,-20.25) AJ26(15.75,-20.25) AJ27(17.25,-20.25) AJ28(18.75,-20.25) AJ29(20.25,-20.25) AJ30(21.75,-20.25) AK1(-21.75,-21.75) AK2(-20.25,-21.75) AK3(-18.75,-21.75) AK4(-17.25,-21.75) AK5(-15.75,-21.75) AK6(-14.25,-21.75) AK7(-12.75,-21.75) AK8(-11.25,-21.75) AK9(-9.75,-21.75) AK10(-8.25,-21.75) AK11(-6.75,-21.75) AK12(-5.25,-21.75) AK13(-3.75,-21.75) AK14(-2.25,-21.75) AK15(-0.75,-21.75) AK16(0.75,-21.75) AK17(2.25,-21.75) AK18(3.75,-21.75) AK19(5.25,-21.75) AK20(6.75,-21.75) AK21(8.25,-21.75) AK22(9.75,-21.75) AK23(11.25,-21.75) AK24(12.75,-21.75) AK25(14.25,-21.75) AK26(15.75,-21.75) AK27(17.25,-21.75) AK28(18.75,-21.75) AK29(20.25,-21.75) AK30(21.75,-21.75) B1(-21.75,20.25) B2(-20.25,20.25) B3(-18.75,20.25) B4(-17.25,20.25) B5(-15.75,20.25) B6(-14.25,20.25) B7(-12.75,20.25) B8(-11.25,20.25) B9(-9.75,20.25) B10(-8.25,20.25) B11(-6.75,20.25) B12(-5.25,20.25) B13(-3.75,20.25) B14(-2.25,20.25) B15(-0.75,20.25) B16(0.75,20.25) B17(2.25,20.25) B18(3.75,20.25) B19(5.25,20.25) B20(6.75,20.25) B21(8.25,20.25) B22(9.75,20.25) B23(11.25,20.25) B24(12.75,20.25) B25(14.25,20.25) B26(15.75,20.25) B27(17.25,20.25) B28(18.75,20.25) B29(20.25,20.25) B30(21.75,20.25) C1(-21.75,18.75) C2(-20.25,18.75) C3(-18.75,18.75) C4(-17.25,18.75) C5(-15.75,18.75) C6(-14.25,18.75) C7(-12.75,18.75) C8(-11.25,18.75) C9(-9.75,18.75) C10(-8.25,18.75) C11(-6.75,18.75) C12(-5.25,18.75) C13(-3.75,18.75) C14(-2.25,18.75) C15(-0.75,18.75) C16(0.75,18.75) C17(2.25,18.75) C18(3.75,18.75) C19(5.25,18.75) C20(6.75,18.75) C21(8.25,18.75) C22(9.75,18.75) C23(11.25,18.75) C24(12.75,18.75) C25(14.25,18.75) C26(15.75,18.75) C27(17.25,18.75) C28(18.75,18.75) C29(20.25,18.75) C30(21.75,18.75) D1(-21.75,17.25) D2(-20.25,17.25) D3(-18.75,17.25) D4(-17.25,17.25) D5(-15.75,17.25) D6(-14.25,17.25) D7(-12.75,17.25) D8(-11.25,17.25) D9(-9.75,17.25) D10(-8.25,17.25) D11(-6.75,17.25) D12(-5.25,17.25) D13(-3.75,17.25) D14(-2.25,17.25) D15(-0.75,17.25) D16(0.75,17.25) D17(2.25,17.25) D18(3.75,17.25) D19(5.25,17.25) D20(6.75,17.25) D21(8.25,17.25) D22(9.75,17.25) D23(11.25,17.25) D24(12.75,17.25) D25(14.25,17.25) D26(15.75,17.25) D27(17.25,17.25) D28(18.75,17.25) D29(20.25,17.25) D30(21.75,17.25) E1(-21.75,15.75) E2(-20.25,15.75) E3(-18.75,15.75) E4(-17.25,15.75) E5(-15.75,15.75) E6(-14.25,15.75) E7(-12.75,15.75) E8(-11.25,15.75) E9(-9.75,15.75) E10(-8.25,15.75) E11(-6.75,15.75) E12(-5.25,15.75) E13(-3.75,15.75) E14(-2.25,15.75) E15(-0.75,15.75) E16(0.75,15.75) E17(2.25,15.75) E18(3.75,15.75) E19(5.25,15.75) E20(6.75,15.75) E21(8.25,15.75) E22(9.75,15.75) E23(11.25,15.75) E24(12.75,15.75) E25(14.25,15.75) E26(15.75,15.75) E27(17.25,15.75) E28(18.75,15.75) E29(20.25,15.75) E30(21.75,15.75) F1(-21.75,14.25) F2(-20.25,14.25) F3(-18.75,14.25) F4(-17.25,14.25) F5(-15.75,14.25) F6(-14.25,14.25) F7(-12.75,14.25) F8(-11.25,14.25) F9(-9.75,14.25) F10(-8.25,14.25) F11(-6.75,14.25) F12(-5.25,14.25) F13(-3.75,14.25) F14(-2.25,14.25) F15(-0.75,14.25) F16(0.75,14.25) F17(2.25,14.25) F18(3.75,14.25) F19(5.25,14.25) F20(6.75,14.25) F21(8.25,14.25) F22(9.75,14.25) F23(11.25,14.25) F24(12.75,14.25) F25(14.25,14.25) F26(15.75,14.25) F27(17.25,14.25) F28(18.75,14.25) F29(20.25,14.25) F30(21.75,14.25) G1(-21.75,12.75) G2(-20.25,12.75) G3(-18.75,12.75) G4(-17.25,12.75) G5(-15.75,12.75) G6(-14.25,12.75) G7(-12.75,12.75) G8(-11.25,12.75) G9(-9.75,12.75) G10(-8.25,12.75) G11(-6.75,12.75) G12(-5.25,12.75) G13(-3.75,12.75) G14(-2.25,12.75) G15(-0.75,12.75) G16(0.75,12.75) G17(2.25,12.75) G18(3.75,12.75) G19(5.25,12.75) G20(6.75,12.75) G21(8.25,12.75) G22(9.75,12.75) G23(11.25,12.75) G24(12.75,12.75) G25(14.25,12.75) G26(15.75,12.75) G27(17.25,12.75) G28(18.75,12.75) G29(20.25,12.75) G30(21.75,12.75) H1(-21.75,11.25) H2(-20.25,11.25) H3(-18.75,11.25) H4(-17.25,11.25) H5(-15.75,11.25) H6(-14.25,11.25) H7(-12.75,11.25) H8(-11.25,11.25) H9(-9.75,11.25) H10(-8.25,11.25) H11(-6.75,11.25) H12(-5.25,11.25) H13(-3.75,11.25) H14(-2.25,11.25) H15(-0.75,11.25) H16(0.75,11.25) H17(2.25,11.25) H18(3.75,11.25) H19(5.25,11.25) H20(6.75,11.25) H21(8.25,11.25) H22(9.75,11.25) H23(11.25,11.25) H24(12.75,11.25) H25(14.25,11.25) H26(15.75,11.25) H27(17.25,11.25) H28(18.75,11.25) H29(20.25,11.25) H30(21.75,11.25) J1(-21.75,9.75) J2(-20.25,9.75) J3(-18.75,9.75) J4(-17.25,9.75) J5(-15.75,9.75) J6(-14.25,9.75) J7(-12.75,9.75) J8(-11.25,9.75) J9(-9.75,9.75) J10(-8.25,9.75) J11(-6.75,9.75) J12(-5.25,9.75) J13(-3.75,9.75) J14(-2.25,9.75) J15(-0.75,9.75) J16(0.75,9.75) J17(2.25,9.75) J18(3.75,9.75) J19(5.25,9.75) J20(6.75,9.75) J21(8.25,9.75) J22(9.75,9.75) J23(11.25,9.75) J24(12.75,9.75) J25(14.25,9.75) J26(15.75,9.75) J27(17.25,9.75) J28(18.75,9.75) J29(20.25,9.75) J30(21.75,9.75) K1(-21.75,8.25) K2(-20.25,8.25) K3(-18.75,8.25) K4(-17.25,8.25) K5(-15.75,8.25) K6(-14.25,8.25) K7(-12.75,8.25) K8(-11.25,8.25) K9(-9.75,8.25) K10(-8.25,8.25) K11(-6.75,8.25) K12(-5.25,8.25) K13(-3.75,8.25) K14(-2.25,8.25) K15(-0.75,8.25) K16(0.75,8.25) K17(2.25,8.25) K18(3.75,8.25) K19(5.25,8.25) K20(6.75,8.25) K21(8.25,8.25) K22(9.75,8.25) K23(11.25,8.25) K24(12.75,8.25) K25(14.25,8.25) K26(15.75,8.25) K27(17.25,8.25) K28(18.75,8.25) K29(20.25,8.25) K30(21.75,8.25) L1(-21.75,6.75) L2(-20.25,6.75) L3(-18.75,6.75) L4(-17.25,6.75) L5(-15.75,6.75) L6(-14.25,6.75) L7(-12.75,6.75) L8(-11.25,6.75) L9(-9.75,6.75) L10(-8.25,6.75) L11(-6.75,6.75) L12(-5.25,6.75) L13(-3.75,6.75) L14(-2.25,6.75) L15(-0.75,6.75) L16(0.75,6.75) L17(2.25,6.75) L18(3.75,6.75) L19(5.25,6.75) L20(6.75,6.75) L21(8.25,6.75) L22(9.75,6.75) L23(11.25,6.75) L24(12.75,6.75) L25(14.25,6.75) L26(15.75,6.75) L27(17.25,6.75) L28(18.75,6.75) L29(20.25,6.75) L30(21.75,6.75) M1(-21.75,5.25) M2(-20.25,5.25) M3(-18.75,5.25) M4(-17.25,5.25) M5(-15.75,5.25) M6(-14.25,5.25) M7(-12.75,5.25) M8(-11.25,5.25) M9(-9.75,5.25) M10(-8.25,5.25) M11(-6.75,5.25) M12(-5.25,5.25) M13(-3.75,5.25) M14(-2.25,5.25) M15(-0.75,5.25) M16(0.75,5.25) M17(2.25,5.25) M18(3.75,5.25) M19(5.25,5.25) M20(6.75,5.25) M21(8.25,5.25) M22(9.75,5.25) M23(11.25,5.25) M24(12.75,5.25) M25(14.25,5.25) M26(15.75,5.25) M27(17.25,5.25) M28(18.75,5.25) M29(20.25,5.25) M30(21.75,5.25) N1(-21.75,3.75) N2(-20.25,3.75) N3(-18.75,3.75) N4(-17.25,3.75) N5(-15.75,3.75) N6(-14.25,3.75) N7(-12.75,3.75) N8(-11.25,3.75) N9(-9.75,3.75) N10(-8.25,3.75) N11(-6.75,3.75) N12(-5.25,3.75) N13(-3.75,3.75) N14(-2.25,3.75) N15(-0.75,3.75) N16(0.75,3.75) N17(2.25,3.75) N18(3.75,3.75) N19(5.25,3.75) N20(6.75,3.75) N21(8.25,3.75) N22(9.75,3.75) N23(11.25,3.75) N24(12.75,3.75) N25(14.25,3.75) N26(15.75,3.75) N27(17.25,3.75) N28(18.75,3.75) N29(20.25,3.75) N30(21.75,3.75) P1(-21.75,2.25) P2(-20.25,2.25) P3(-18.75,2.25) P4(-17.25,2.25) P5(-15.75,2.25) P6(-14.25,2.25) P7(-12.75,2.25) P8(-11.25,2.25) P9(-9.75,2.25) P10(-8.25,2.25) P11(-6.75,2.25) P12(-5.25,2.25) P13(-3.75,2.25) P14(-2.25,2.25) P15(-0.75,2.25) P16(0.75,2.25) P17(2.25,2.25) P18(3.75,2.25) P19(5.25,2.25) P20(6.75,2.25) P21(8.25,2.25) P22(9.75,2.25) P23(11.25,2.25) P24(12.75,2.25) P25(14.25,2.25) P26(15.75,2.25) P27(17.25,2.25) P28(18.75,2.25) P29(20.25,2.25) P30(21.75,2.25) R1(-21.75,0.75) R2(-20.25,0.75) R3(-18.75,0.75) R4(-17.25,0.75) R5(-15.75,0.75) R6(-14.25,0.75) R7(-12.75,0.75) R8(-11.25,0.75) R9(-9.75,0.75) R10(-8.25,0.75) R11(-6.75,0.75) R12(-5.25,0.75) R13(-3.75,0.75) R14(-2.25,0.75) R15(-0.75,0.75) R16(0.75,0.75) R17(2.25,0.75) R18(3.75,0.75) R19(5.25,0.75) R20(6.75,0.75) R21(8.25,0.75) R22(9.75,0.75) R23(11.25,0.75) R24(12.75,0.75) R25(14.25,0.75) R26(15.75,0.75) R27(17.25,0.75) R28(18.75,0.75) R29(20.25,0.75) R30(21.75,0.75) T1(-21.75,-0.75) T2(-20.25,-0.75) T3(-18.75,-0.75) T4(-17.25,-0.75) T5(-15.75,-0.75) T6(-14.25,-0.75) T7(-12.75,-0.75) T8(-11.25,-0.75) T9(-9.75,-0.75) T10(-8.25,-0.75) T11(-6.75,-0.75) T12(-5.25,-0.75) T13(-3.75,-0.75) T14(-2.25,-0.75) T15(-0.75,-0.75) T16(0.75,-0.75) T17(2.25,-0.75) T18(3.75,-0.75) T19(5.25,-0.75) T20(6.75,-0.75) T21(8.25,-0.75) T22(9.75,-0.75) T23(11.25,-0.75) T24(12.75,-0.75) T25(14.25,-0.75) T26(15.75,-0.75) T27(17.25,-0.75) T28(18.75,-0.75) T29(20.25,-0.75) T30(21.75,-0.75) U1(-21.75,-2.25) U2(-20.25,-2.25) U3(-18.75,-2.25) U4(-17.25,-2.25) U5(-15.75,-2.25) U6(-14.25,-2.25) U7(-12.75,-2.25) U8(-11.25,-2.25) U9(-9.75,-2.25) U10(-8.25,-2.25) U11(-6.75,-2.25) U12(-5.25,-2.25) U13(-3.75,-2.25) U14(-2.25,-2.25) U15(-0.75,-2.25) U16(0.75,-2.25) U17(2.25,-2.25) U18(3.75,-2.25) U19(5.25,-2.25) U20(6.75,-2.25) U21(8.25,-2.25) U22(9.75,-2.25) U23(11.25,-2.25) U24(12.75,-2.25) U25(14.25,-2.25) U26(15.75,-2.25) U27(17.25,-2.25) U28(18.75,-2.25) U29(20.25,-2.25) U30(21.75,-2.25) V1(-21.75,-3.75) V2(-20.25,-3.75) V3(-18.75,-3.75) V4(-17.25,-3.75) V5(-15.75,-3.75) V6(-14.25,-3.75) V7(-12.75,-3.75) V8(-11.25,-3.75) V9(-9.75,-3.75) V10(-8.25,-3.75) V11(-6.75,-3.75) V12(-5.25,-3.75) V13(-3.75,-3.75) V14(-2.25,-3.75) V15(-0.75,-3.75) V16(0.75,-3.75) V17(2.25,-3.75) V18(3.75,-3.75) V19(5.25,-3.75) V20(6.75,-3.75) V21(8.25,-3.75) V22(9.75,-3.75) V23(11.25,-3.75) V24(12.75,-3.75) V25(14.25,-3.75) V26(15.75,-3.75) V27(17.25,-3.75) V28(18.75,-3.75) V29(20.25,-3.75) V30(21.75,-3.75) W1(-21.75,-5.25) W2(-20.25,-5.25) W3(-18.75,-5.25) W4(-17.25,-5.25) W5(-15.75,-5.25) W6(-14.25,-5.25) W7(-12.75,-5.25) W8(-11.25,-5.25) W9(-9.75,-5.25) W10(-8.25,-5.25) W11(-6.75,-5.25) W12(-5.25,-5.25) W13(-3.75,-5.25) W14(-2.25,-5.25) W15(-0.75,-5.25) W16(0.75,-5.25) W17(2.25,-5.25) W18(3.75,-5.25) W19(5.25,-5.25) W20(6.75,-5.25) W21(8.25,-5.25) W22(9.75,-5.25) W23(11.25,-5.25) W24(12.75,-5.25) W25(14.25,-5.25) W26(15.75,-5.25) W27(17.25,-5.25) W28(18.75,-5.25) W29(20.25,-5.25) W30(21.75,-5.25) Y1(-21.75,-6.75) Y2(-20.25,-6.75) Y3(-18.75,-6.75) Y4(-17.25,-6.75) Y5(-15.75,-6.75) Y6(-14.25,-6.75) Y7(-12.75,-6.75) Y8(-11.25,-6.75) Y9(-9.75,-6.75) Y10(-8.25,-6.75) Y11(-6.75,-6.75) Y12(-5.25,-6.75) Y13(-3.75,-6.75) Y14(-2.25,-6.75) Y15(-0.75,-6.75) Y16(0.75,-6.75) Y17(2.25,-6.75) Y18(3.75,-6.75) Y19(5.25,-6.75) Y20(6.75,-6.75) Y21(8.25,-6.75) Y22(9.75,-6.75) Y23(11.25,-6.75) Y24(12.75,-6.75) Y25(14.25,-6.75) Y26(15.75,-6.75) Y27(17.25,-6.75) Y28(18.75,-6.75) Y29(20.25,-6.75) Y30(21.75,-6.75)
Top Overlay:
  circle w0.25: c-23.155,21.75 r0.125
  lines w0.2: -22.5,-21.99 -21.99,-22.5 21.99,-22.5 22.5,-21.99 22.5,21.99 21.99,22.5 -22.5,22.5 -22.5,-21.99